# EAGLE library part BMA280_F (library 000001)
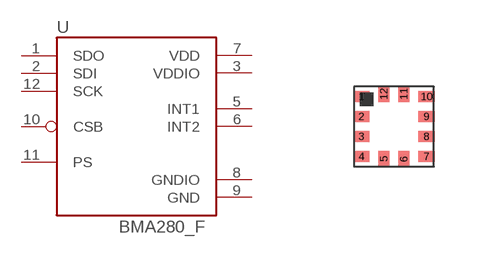
[diagram p128: symbol with the pads of LGA12; footprint LGA12]

Designator prefix -

## BMA280_F  [LGA12]
1  SDO
2  SDI
3  VDDIO  pwr
5  INT1  out
6  INT2  out
7  VDD  pwr
8  GNDIO
9  GND
10  CSB  in
11  PS  in
12  SCK  in

## Footprint LGA12 (pad centres in mm)
smd 0.41 x 0.28: 1 -0.815,0.75; 2 -0.815,0.25; 3 -0.815,-0.25; 4 -0.815,-0.75; 7 0.815,-0.75; 8 0.815,-0.25; 9 0.815,0.25; 10 0.815,0.75
smd 0.28 x 0.41: 5 -0.25,-0.815; 6 0.25,-0.815; 11 0.25,0.815; 12 -0.25,0.815